# Altium footprint library 继电器封装库.PcbLib: 16 footprints
Each footprint in its own frame and in the unit in brackets; x right, y up, seen from the top. Pads: shape width x height; smd on the part's side, far side on the other; paste and mask are expansions set on the pad; w line width, h text height; cw(c..) or ccw(c..) is an arc to the next point about the centre after c.
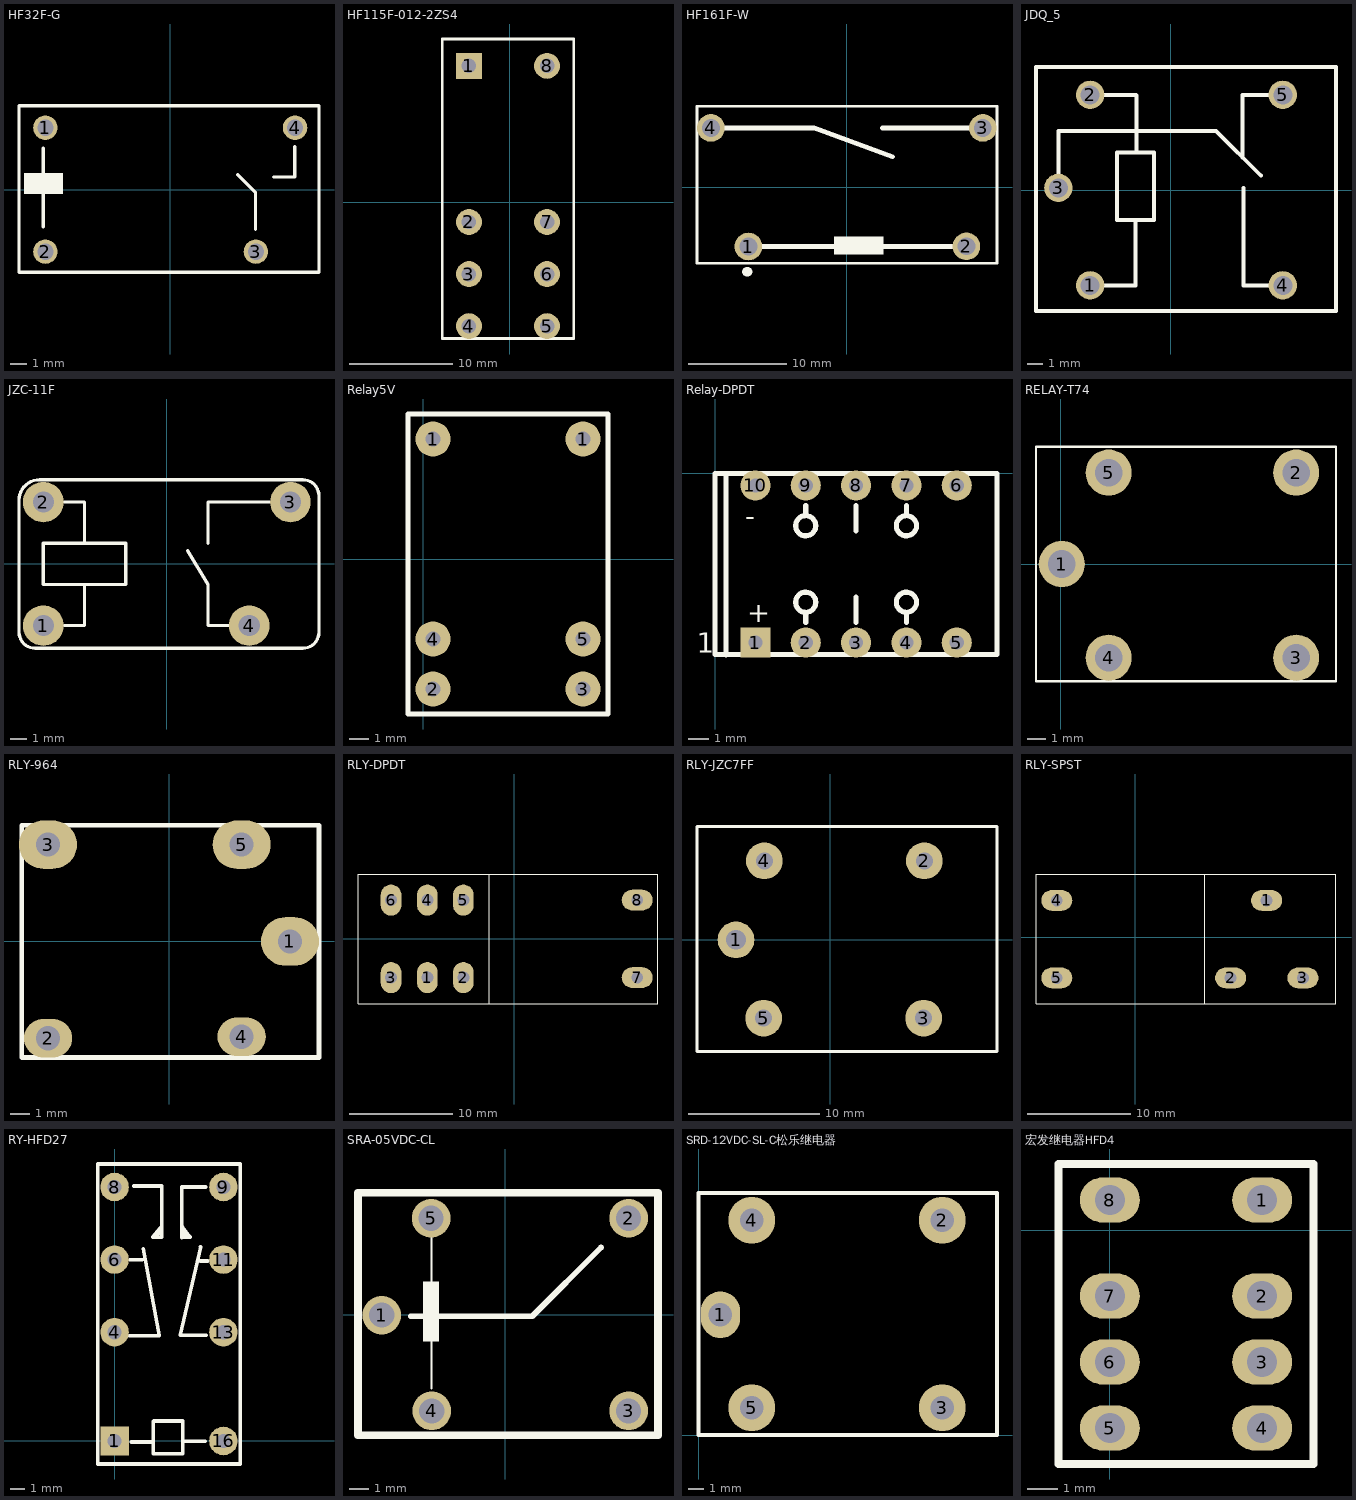
[diagram p0: the footprints below, top view; thin cyan lines are the x and y axes]

## HF32F-G [mm]
pads (4):
  round 1.5 hole 1: 1(-7.655,3.8) 2(-7.655,-3.8) 3(5.255,-3.8) 4(7.655,3.8)
Top Overlay:
  rectangle: -8.965,-0.28 -6.585,1.01
  lines w0.2: -7.795,-2.27 -7.795,2.54 ; 4.145,0.92 5.225,-0.16 5.225,-2.44 ; 6.355,0.77 7.635,0.77 7.635,2.65 ; -9.275,-5.06 -9.275,5.14 9.125,5.14 9.125,-5.06 -9.275,-5.06

## HF115F-012-2ZS4 [mm]
height 15.7
pads (8):
  rect 2.5x2.5 hole 1.4: 1(-3.937,13.208)
  round 2.5 hole 1.4: 2(-3.937,-1.912) 3(-3.937,-6.952) 4(-3.937,-11.992) 5(3.623,-11.992) 6(3.623,-6.952) 7(3.623,-1.912) 8(3.623,13.208)
Top Overlay:
  lines w0.254: -6.507,-13.192 -6.507,15.808 6.193,15.808 6.193,-13.192 -6.507,-13.192

## HF161F-W [mm]
pads (4):
  round 2.8 hole 1.8: 1(-9.975,-6.01) 2(12.115,-5.99) 3(13.775,6.01) 4(-13.775,6.01)
Top Overlay:
  rectangle: -1.325,-6.8 3.715,-4.98
  lines w0.254: -15.185,-7.69 15.215,-7.69 15.215,8.21 -15.185,8.21 -15.185,-7.69
  lines w0.5: -13.775,6.01 -3.355,6.01 4.615,3.09 ; -9.975,-6.01 12.095,-6.01 ; 3.615,6.01 13.775,6.01
  lines w1: -10.115,-8.57 -10.045,-8.57
3D body: height 24.3, standoff 1, extent -15.255,-7.76 15.225,8.19

## JDQ_5 [mm]
pads (5):
  round 1.8 hole 1.2: 1(-5.1,-6.035) 2(-5.1,6.035) 3(-7.11,0.139) 4(7.11,-6.035) 5(7.11,6.035)
Top Overlay:
  lines w0.254: -8.53,-7.665 10.48,-7.665 10.48,7.805 -8.53,7.805 -8.53,-7.595 ; -7.11,0.139 -7.11,2.283 -7.11,3.755 2.87,3.755 5.715,0.91 ; -5.1,-6.035 -2.21,-6.035 -2.21,-1.945 ; -5.1,6.035 -2.2,6.035 -2.17,6.005 -2.17,2.525 ; 4.54,2.075 4.54,6.035 7.11,6.035 ; 4.61,0.125 4.61,-6.035 7.11,-6.035 ; -3.41,-1.895 -1.04,-1.895 -1.04,2.375 -3.41,2.375 -3.41,-1.895

## JZC-11F [mm]
height 1.99
pads (4):
  round 2.5 hole 1.3: 1(-7.62,-3.81) 2(-7.62,3.81) 3(7.62,3.81) 4(5.08,-3.81)
Top Overlay:
  lines w0.2: -6.35,-3.81 -5.08,-3.81 -5.08,-1.27 ; -6.35,3.81 -5.08,3.81 -5.08,1.27 ; 1.28,0.81 2.54,-1.27 2.54,-3.81 3.81,-3.81 ; 2.54,1.27 2.54,3.81 6.35,3.81 ; -5.08,1.27 -2.54,1.27 -2.54,-1.27 -7.62,-1.27 -7.62,1.27 -5.08,1.27 ; -9.12,-4.21 ccw(c-8.12,-4.21) -8.12,-5.21 8.38,-5.21 ccw(c8.38,-4.21) 9.38,-4.21 9.38,4.19 ccw(c8.38,4.19) 8.38,5.19 -7.62,5.19 -7.85,5.19 ccw(c-7.85,3.92) -9.12,3.92 -9.12,-4.21
3D body: height 14, standoff 0, extent -9.12,-5.21 9.38,5.19

## Relay5V [mil]
pads (6):
  round 70 hole 30: 1(20,240) 1(320,240) 2(20,-260) 3(320,-260) 4(20,-160) 5(320,-160)
Top Overlay:
  lines w10: -30,-310 370,-310 370,290 -30,290 -30,-310

## Relay-DPDT [mm]
pads (10):
  rect 1.5x1.5 hole 0.7: 1(2,-8.4)
  round 1.5 hole 0.7: 2(4.5,-8.4) 3(7,-8.4) 4(9.5,-8.4) 5(12,-8.4) 6(12,-0.6) 7(9.5,-0.6) 8(7,-0.6) 9(4.5,-0.6) 10(2,-0.6)
Top Overlay:
  circle w0.254: c9.5,-6.4 r0.5
  circle w0.254: c4.5,-6.4 r0.5
  circle w0.254: c9.5,-2.6 r0.5
  circle w0.254: c4.5,-2.6 r0.5
  lines w0.254: 0.533,-9.017 0.533,-0.025 ; 4.5,-7.4 4.5,-6.9 ; 4.5,-2.1 4.5,-1.6 ; 7,-7.4 7,-6.15 ; 7,-2.85 7,-1.6 ; 9.5,-7.4 9.5,-6.9 ; 9.5,-2.1 9.5,-1.6 ; 0,-9 14,-9 14,0 0,0 0,-9
  text "1" at -0.9,-8.9 h1
  text "-" at 1.5,-2.6 h1
  text "+" at 1.6,-7.4 h1
3D body: height 5, standoff 0, extent 0,-9 14,0

## RELAY-T74 [mm]
pads (5):
  round 2.5 hole 1.5: 1(0.051,0) 2(12.751,4.953) 3(12.751,-5.08) 4(2.591,-5.08) 5(2.591,4.953)
Top Overlay:
  lines w0.127: -1.346,-6.35 14.91,-6.35 14.91,6.35 -1.346,6.35 -1.346,-6.35

## RLY-964 [mil]
pads (5):
  oval 120x100 hole 50: 1(250,0) 3(-250,200) 5(150,200)
  oval 100x80 hole 50: 2(-250,-200) 4(150,-196.85)
Top Overlay:
  lines w10: -304.17,-240 310,-240 310,0 310,240 -304.17,240 -304.17,-240

## RLY-DPDT [mil]
pads (8):
  oval 79x118 hole 45: 1(-330.5,-147.5) 2(-193.5,-147.5) 3(-468.5,-147.5) 4(-330.5,147.5) 5(-193.5,147.5) 6(-468.5,147.5)
  oval 118x79 hole 45: 7(468.5,-147.5) 8(468.5,147.5)
Top Overlay:
  lines w4: -94.5,-246.5 -94.5,245.5 ; -594.5,-246.5 547.5,-246.5 547.5,245.5 -594.5,245.5 -594.5,-246.5

## RLY-JZC7FF [mm]
pads (5):
  round 2.8 hole 1.5: 1(-7.175,-0.025)
  round 2.8 hole 1.3: 2(7.175,5.994) 3(7.125,-5.994) 4(-5.016,5.994) 5(-5.067,-5.994)
Top Overlay:
  lines w0.254: -10.147,-8.534 12.713,-8.534 12.713,8.611 -10.147,8.611 -10.147,-8.534

## RLY-SPST [mil]
pads (5):
  oval 118x79 hole 45: 1(500,140) 2(363,-155) 3(638,-155) 4(-299,140) 5(-299,-155)
Top Overlay:
  lines w4: 264,-253 264,239 ; -378,-253 -378,239 764,239 764,-253 -378,-253

## RY-HFD27 [mm]
pads (8):
  rect 2x2 hole 1: 1(0,0)
  round 2 hole 1: 4(0,7.62) 6(0,12.7) 8(0,17.78) 9(7.62,17.78) 11(7.62,12.7) 13(7.62,7.62) 16(7.62,0)
Top Overlay:
  lines w0.254: 1.022,7.375 3.128,7.375 2.004,13.46 ; 1.058,12.693 1.932,12.693 ; 1.183,-0.066 2.629,-0.066 ; 1.344,17.85 3.307,17.85 3.306,14.263 2.664,14.263 3.217,14.923 3.021,14.406 ; 4.734,15.013 5.287,14.281 5.269,14.263 4.698,14.245 4.699,17.779 6.394,17.779 ; 4.805,14.781 4.966,14.352 ; 4.877,-0.013 6.34,-0.013 ; 6.001,12.604 6.519,12.604 ; 6.019,13.585 4.609,7.411 6.429,7.411 ; -1.19,-1.61 -1.19,19.39 8.81,19.39 8.81,-1.61 -1.19,-1.61 ; 2.7,-0.887 4.752,-0.887 4.77,-0.869 4.77,1.397 2.736,1.397 2.7,1.361 2.7,1.076 2.7,-0.887
3D body: height 10.92, standoff -4, extent -1.143,-1.27 8.857,19.13

## SRA-05VDC-CL [mm] "body:15.5mm X 12.3mm X 14mm pin 5"
pads (5):
  round 2 hole 1.3: 1(-6.38,-0.03) 2(6.38,4.98) 3(6.38,-4.98) 4(-3.8,-4.98) 5(-3.83,4.98)
Top Overlay:
  rectangle: -4.24,-1.39 -3.42,1.7
  lines w0.1: -3.82,-3.83 -3.82,3.98
  lines w0.3: -4.88,-0.09 1.4,-0.09 4.955,3.465
  lines w0.4: -7.61,-6.24 7.9,-6.24 7.9,6.3 -7.61,6.3 -7.61,-6.24

## SRD-12VDC-SL-C松乐继电器 [mm] "SRD-12VDC-SL-C松乐继电器"
height 15.3
pads (5):
  oval 2.5x3 hole 1.5: 1(1.4,7.7)
  round 3 hole 1.5: 2(15.6,13.75) 3(15.6,1.75) 4(3.4,13.75) 5(3.4,1.75)
Top Overlay:
  lines w0.254: 0,0 19.1,0 19.1,15.5 0,15.5 0,0

## 宏发继电器HFD4 [mm] "宏发继电器HFD4"
height 5.4
pads (8):
  oval 2x1.5 hole 1: 1(5.08,1) 2(5.08,-2.2) 3(5.08,-4.4) 4(5.08,-6.6) 5(0,-6.6) 6(0,-4.4) 7(0,-2.2) 8(0,1)
Top Overlay:
  lines w0.254: -1.71,-7.8 -1.71,2.2 6.79,2.2 6.79,-7.8 -1.71,-7.8